# EAGLE library part ADS1256 (library Dmitry)
TI ADS1256 - 24 bit delta sigma ADC TSSOP28 PAC
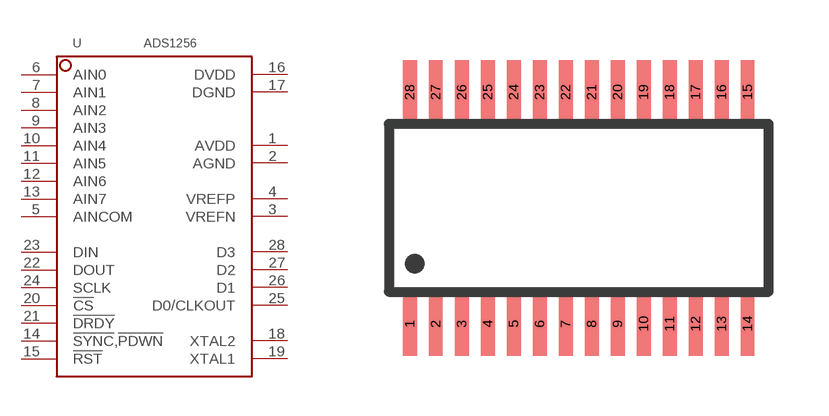
[diagram p14: symbol with the pads of PCM2705-TSSOP28; footprint PCM2705-TSSOP28]

Designator prefix U

## ADS1256  [PCM2705-TSSOP28]
1  AVDD
2  AGND
3  VREFN
4  VREFP
5  AINCOM
6  AIN0
7  AIN1
8  AIN2
9  AIN3
10  AIN4
11  AIN5
12  AIN6
13  AIN7
14  !SYNC,!PDWN
15  !RST
16  DVDD
17  DGND
18  XTAL2
19  XTAL1
20  !CS
21  !DRDY
22  DOUT
23  DIN
24  SCLK
25  D0/CLKOUT
26  D1
27  D2
28  D3

## Footprint PCM2705-TSSOP28 (pad centres in mm)
28-Lead TSSOP Package RU-28
smd 0.35 x 1.6: 1 -4.225,-2.9; 2 -3.575,-2.9; 3 -2.925,-2.9; 4 -2.275,-2.9; 5 -1.625,-2.9; 6 -0.975,-2.9; 7 -0.325,-2.9; 8 0.325,-2.9; 9 0.975,-2.9; 10 1.625,-2.9; 11 2.275,-2.9; 12 2.925,-2.9; 13 3.575,-2.9; 14 4.225,-2.9; 15 4.225,2.9; 16 3.575,2.9; 17 2.925,2.9; 18 2.275,2.9; 19 1.625,2.9; 20 0.975,2.9; 21 0.325,2.9; 22 -0.325,2.9; 23 -0.975,2.9; 24 -1.625,2.9; 25 -2.275,2.9; 26 -2.925,2.9; 27 -3.575,2.9; 28 -4.225,2.9